# Altium schematic symbol library Sara.SchLib: 93 symbols (part 1 of 2)
Pins are listed as number, name and electrical type; pins without a type are passive.

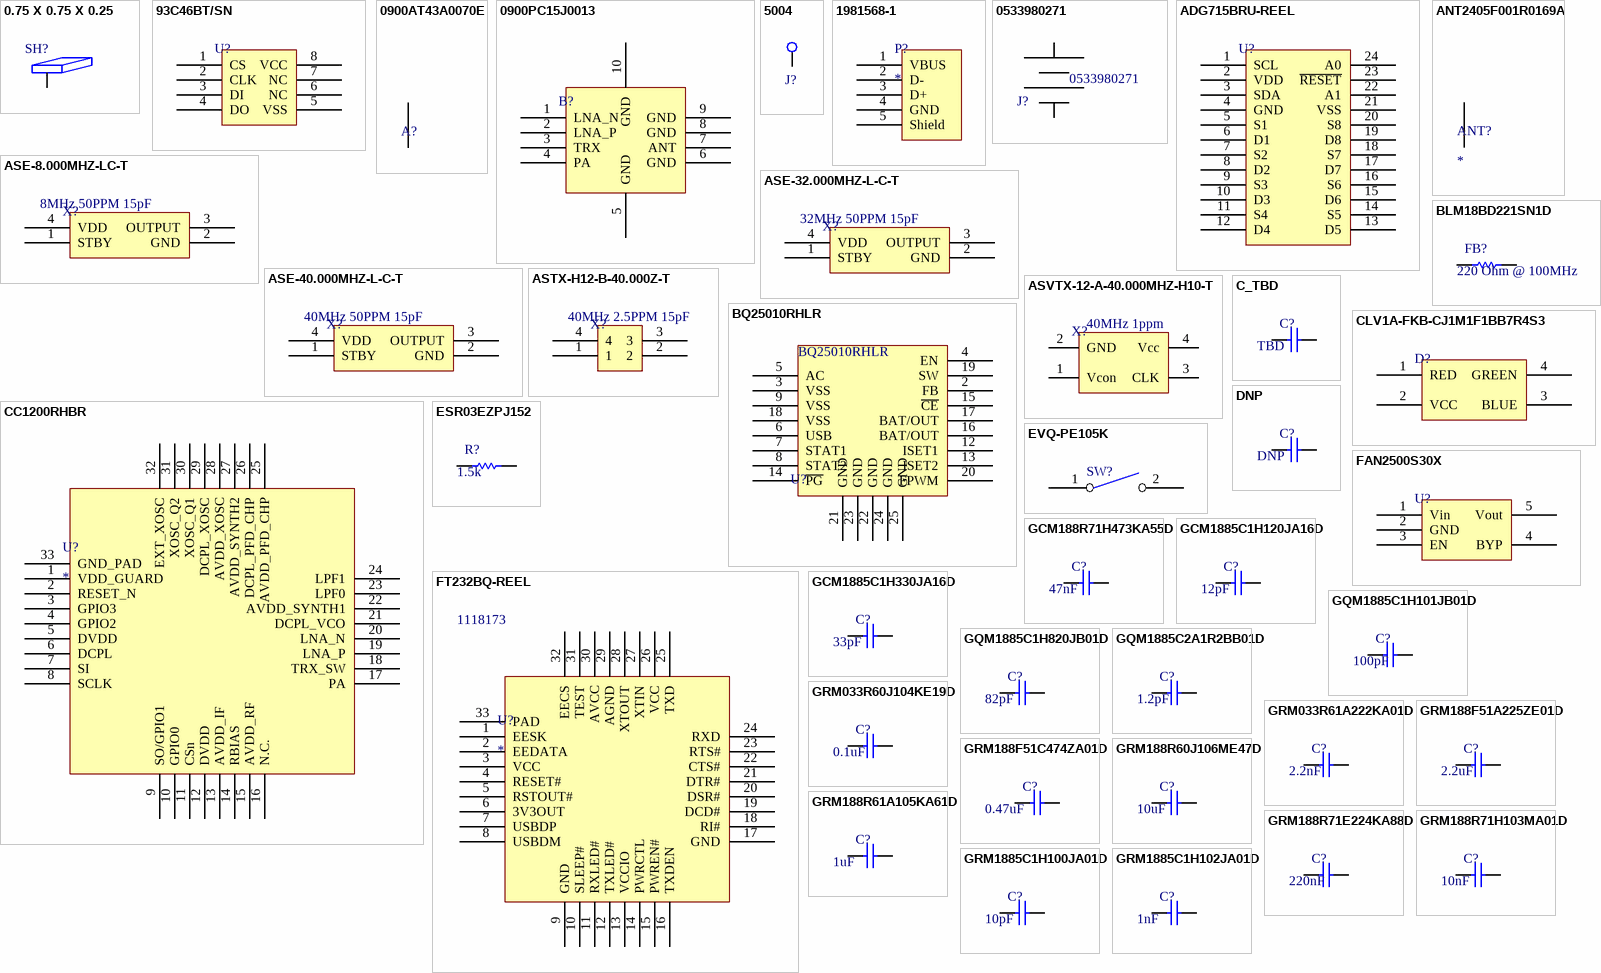
[diagram p0: symbols 0.75 X 0.75 X 0.25 to GRM1885C1H102JA01D]

## 0.75 X 0.75 X 0.25
designator SH?  (value not drawn)
SHIELD RF STD .75 X .75 X .25"; Manufacturer: Fotofab; Manufacturer Part Number: 0.75 X 0.75 X 0.25; Ventilation: Solid; Supplier 1: Digi-Key; RoHS: RoHS Compliant; Category: RF/IF and RFID; Stock 1: 2647; Pricing 1: 1=2.24, 10=2.019, 100=1.6226, 250=1.44232, 500=1.26202, 1000=1.04567, 2500=0.97355, 5000=0.9375, 10000=0.90144 (USD); Packaging: Bulk; Type: 1 Piece; Height - Overall: 0.250" (6.35mm); Length - Overall: 0.750" (19.05mm); Width - Overall: 0.750" (19.05mm); Mounting Type: Surface Mount; ComponentLink1URL: http://www.fotofab.com/pdf/Standard_RF_Shields.pdf; ComponentLink1Description: http://www.fotofab.com/pdf/Standard_RF_Shields.pdf
footprint SH-RF (SHIELD RF STD .75 X .75 X .25")
pins: 1

## 93C46BT/SN
designator U?  (value not drawn)
IC EEPROM 1KBIT 2MHZ 8SOIC; Manufacturer: Microchip Technology; Manufacturer Part Number: 93C46BT/SN; Format - Memory: EEPROMs - Serial; Memory Size: 1K (64 x 16); Interface: Microwire, 3-Wire Serial; Voltage - Supply: 4.5 V ~ 5.5 V; Supplier 1: Digi-Key; RoHS: RoHS Compliant; Category: Integrated Circuits (ICs); Stock 1: 3300; Pricing 1: 3300=0.2 (USD); Packaging: Tape & Reel (TR); Memory Type: EEPROM; Speed: 2MHz; Operating Temperature: 0°C ~ 70°C; Package / Case: 8-SOIC (0.154", 3.90mm Width); Supplier Device Package: 8-SOIC N; ComponentLink1URL: http://www.microchip.com/mymicrochip/filehandler.aspx?ddocname=en550232; ComponentLink1Description: http://www.microchip.com/mymicrochip/filehandler.aspx?ddocname=en550232
footprint SOIC127P600X175-8N (SOIC, 8-Leads, Body 4.90x3.90mm, Pitch 1.27mm, IPC Medium Density)
pins: 1 CS, 2 CLK, 3 DI, 4 DO, 5 VSS, 6 NC, 7 NC, 8 VCC

## 0900AT43A0070E
designator A?  (value not drawn)
Antennas 858-928 MHz Chip Antenna; Manufacturer: Johanson Technology; Manufacturer Part Number: 0900AT43A0070E; Frequency: 858 MHz to 928 MHz; Impedance: 50 Ohms; Power Rating: 2 W; Gain: - 2.5 dBi; Supplier 1: Mouser; RoHS: RoHS Compliant; Category: Antennas; Stock 1: 6605; Pricing 1: 1=0.780, 25=0.650, 100=0.585, 500=0.520, 1000=0.468, 2000=0.442, 5000=0.416, 10000=0.390, 25000=0.364 (USD); Bandwidth: -; Frequency Range: 858 MHz to 928 MHz; Height: 0.8 mm; Length: 7 mm; Packaging: Reel; Product: PCB Antenna; Termination Style: SMD/SMT; Width: 2 mm; Brand: Johanson Technology; Mounting Style: SMD/SMT; Standard Pack Qty: 1000; RoHS - Mouser: Y; Minimum Order Quantity: 1; Reeling: True; ComponentLink1URL: http://www.mouser.com/ds/2/611/0900AT43A0070-526531.pdf; ComponentLink1Description: http://www.mouser.com/ds/2/611/0900AT43A0070-526531.pdf; Supplier Part Number 1: 609-0900AT43A0070E
pins: 1

## 0900PC15J0013
designator B?  (value not drawn)
TI CC1120 1121 BALUN FILTER IPC; Manufacturer: Johanson Technology Inc.; Manufacturer Part Number: 0900PC15J0013; Frequency Range: 868MHz ~ 928MHz; Impedance - Unbalanced/Balanced: 50 / 50 Ohm; Phase Difference: 180° ±15; Insertion Loss (Max): 2.0dB; Return Loss (Min): 9.5dB; Supplier 1: Digi-Key; RoHS: RoHS Compliant; Category: RF/IF and RFID; Stock 1: 6483; Pricing 1: 1=1.6, 10=1.563, 25=1.0464, 50=0.9314, 100=0.8533, 250=0.7656, 500=0.74966, 1000=0.5423 (USD); Packaging: Cut Tape (CT); Part Status: Active; Package / Case: 0805 (2012 Metric), 10 PC Pad; Mounting Type: Surface Mount; ComponentLink1URL: http://www.johansontechnology.com/datasheets/highly-integrated-passive-components/0900PC15J0013.pdf; ComponentLink1Description: http://www.johansontechnology.com/datasheets/highly-integrated-passive-components/0900PC15J0013.pdf; Supplier Part Number 1: 712-1586-1-ND
footprint 0900PC15J0013
pins: 1 LNA_N, 2 LNA_P, 3 TRX, 4 PA, 5 GND, 6 GND, 7 ANT, 8 GND, 9 GND, 10 GND

## 5004
designator J?  (value not drawn)
TEST POINT PC MINI .040"D YELLOW; Manufacturer: Keystone Electronics; Manufacturer Part Number: 5004; Supplier 1: Digi-Key; RoHS: RoHS Compliant; Category: Test and Measurement; Stock 1: 45761; Pricing 1: 1=0.34, 10=0.318, 50=0.232, 100=0.2228, 250=0.20008, 500=0.191, 1000=0.15916, 2500=0.14552, 5000=0.13643 (USD); Packaging: Bulk; Type: PC Test Point, Miniature; Terminal: 0.010" x 0.020" (0.25mm x 0.51mm) Phosphor Bronze Wire, Silver Plated; Mounting Type: 0.040" (1.02mm) Hole Diameter; Material: Base, Nylon 46, UL 94V-0; Color: Yellow; ComponentLink1URL: http://www.keyelco.com/product-pdf.cfm?p=1313; ComponentLink1Description: http://www.keyelco.com/product-pdf.cfm?p=1313
footprint TP
pins: 1

## 1981568-1
designator P?
CONN RCPT MICRO USB B R/A SMD; Manufacturer: TE Connectivity; Manufacturer Part Number: 1981568-1; Connector Type: USB - micro B; Number of Contacts: 5; Gender: Receptacle; Specifications: USB 1.0; Supplier 1: Digi-Key; RoHS: RoHS Compliant; Category: Connectors, Interconnects; Stock 1: 10146; Pricing 1: 1=1.8, 10=1.636, 25=1.5364, 50=1.4694, 100=1.4026, 250=1.26904, 500=1.16886 (USD); Packaging: Cut Tape (CT); Mounting Type: Surface Mount, Right Angle, Horizontal; Features: -; Ingress Protection: -; ComponentLink1URL: http://www.te.com/commerce/DocumentDelivery/DDEController?Action=srchrtrv&DocNm=1981568&DocType=Customer+Drawing&DocLang=English; ComponentLink1Description: http://www.te.com/commerce/DocumentDelivery/DDEController?Action=srchrtrv&DocNm=1981568&DocType=Customer+Drawing&DocLang=English
footprint microUSB
pins: 1 VBUS, 2 D-, 3 D+, 4 GND, 5 Shield

## 0533980271
designator J?  Manufacturer Part Number: 0533980271  (hidden comment: *)
CONN HEADER 2POS 1.25MM VERT SMD; Manufacturer: Molex Inc; Connector Type: Header, Male Blades; Number of Positions: 2; Pitch: 0.049" (1.25mm); Supplier 1: Digi-Key; RoHS: RoHS Compliant; Category: Connectors, Interconnects; Stock 1: 14126; Pricing 1: 1=1.4, 10=1.091, 25=1.0168, 50=0.923, 100=0.8323, 250=0.7014, 500=0.66448 (USD); Connector Style: -; Mounting Type: Surface Mount; Termination: Solder; Wire Gauge: -; Features: -; Color: Natural; Packaging: Cut Tape (CT); ComponentLink1URL: http://www.molex.com/pdm_docs/sd/533980271_sd.pdf; ComponentLink1Description: http://www.molex.com/pdm_docs/sd/533980271_sd.pdf; Supplier Part Number 1: WM7606CT-ND
footprint 53398-0271 (1.25mm Pitch PicoBlade™ Header, Surface Mount, Vertical, Lead-Free, 2 Circuits)
pins: 1 Pos, 2 Neg

## ADG715BRU-REEL
designator U?  (value not drawn)
IC SWITCH OCTAL SPST 24TSSOP; Manufacturer: Analog Devices Inc; Manufacturer Part Number: ADG715BRU-REEL; Circuit: 8 x SPST - NO; On-State Resistance: 4.5 Ohm; Voltage Supply Source: Single, Dual Supply; Voltage - Supply, Single/Dual (±): 2.7 V ~ 5.5 V, ±2.5V; Current - Supply: 10µA; Supplier 1: Digi-Key; RoHS: RoHS non-compliant; Category: Integrated Circuits (ICs); Stock 1: 0; Pricing 1: 2500=2.616 (USD); Packaging: Tape & Reel (TR); Function: Switch; Operating Temperature: -40°C ~ 85°C; Mounting Type: Surface Mount; Package / Case: 24-TSSOP (0.173", 4.40mm Width); Supplier Device Package: 24-TSSOP; ComponentLink1URL: http://www.analog.com/static/imported-files/data_sheets/ADG714_715.pdf; ComponentLink1Description: http://www.analog.com/static/imported-files/data_sheets/ADG714_715.pdf
footprint TSOP65P640X120-24N (TSOP, 24-Leads, Body 7.80x4.40mm, Pitch 0.65mm, IPC Medium Density)
pins: 1 SCL, 2 VDD, 3 SDA, 4 GND, 5 S1, 6 D1, 7 S2, 8 D2, 9 S3, 10 D3, 11 S4, 12 D4, 13 D5, 14 S5, 15 D6, 16 S6, 17 D7, 18 S7, 19 D8, 20 S8, 21 VSS, 22 A1, 23 ~{RESET}, 24 A0

## ANT2405F001R0169A
designator ANT?
CHIP ANTENNA 169MHZ 24X05X1.6 MM; Manufacturer: Yageo; Manufacturer Part Number: ANT2405F001R0169A; Number of Bands: 1; Supplier 1: Digi-Key; RoHS: RoHS Compliant; Category: RF/IF and RFID; Stock 1: 0; Pricing 1: 2000=1.66383, 6000=1.60128, 10000=1.55124, 50000=1.5012 (USD); Packaging: Tape & Reel (TR); Antenna Type: Chip; Frequency: 169MHz; VSWR: -; Gain: -; Termination: Surface Mount; Mounting Type: Surface Mount; Height (Max): 0.063" (1.60mm); ComponentLink1URL: http://www.yageo.com/documents/recent/An_FR4_1690_2405_0.pdf; ComponentLink1Description: http://www.yageo.com/documents/recent/An_FR4_1690_2405_0.pdf
footprint ANT-2405-F-001-R-0169A
pins: 0 hidden, 1, 2 hidden, 3 hidden

## ASE-8.000MHZ-LC-T
designator X?  (value not drawn)
OSC XO 8.000MHZ CMOS SMD; Manufacturer: Abracon LLC; Manufacturer Part Number: ASE-8.000MHZ-LC-T; Frequency: 8MHz; Function: Enable/Disable; Voltage - Supply: 3.3V; Frequency Stability: ±50ppm; Current - Supply (Max): 7mA; Current - Supply (Disable) (Max): 10µA; Supplier 1: Digi-Key; RoHS: RoHS Compliant; Category: Crystals, Oscillators, Resonators; Stock 1: 1499; Pricing 1: 1=1.49, 10=1.419, 50=1.386, 100=1.188, 500=1.155 (USD); Packaging: Cut Tape (CT); Part Status: Active; Type: XO (Standard); Output: CMOS; Operating Temperature: -40°C ~ 85°C; Ratings: -; Mounting Type: Surface Mount; Package / Case: 4-SMD, No Lead (DFN, LCC); Size / Dimension: 0.126" L x 0.098" W (3.20mm x 2.50mm); Height - Seated (Max): 0.047" (1.20mm); ComponentLink1URL: http://www.abracon.com/Oscillators/ASEseries.pdf; ComponentLink1Description: http://www.abracon.com/Oscillators/ASEseries.pdf; Supplier Part Number 1: 535-9558-1-ND
footprint 3.2x2.5x1.2mmXTAL
pins: 1 STBY, 2 GND, 3 OUTPUT, 4 VDD
text: 8MHz 50PPM 15pF

## ASE-32.000MHZ-L-C-T
designator X?  (value not drawn)
Standard Clock Oscillators 32.000M 3.3V 50ppm; Manufacturer: ABRACON; Manufacturer Part Number: ASE-32.000MHZ-L-C-T; Frequency: 32 MHz; Load Capacitance: 15 pF; Output Format: CMOS; Supplier 1: Mouser; RoHS: RoHS Compliant; Category: Standard Clock Oscillators; Stock 1: 0; Pricing 1: 1000=0.959, 2000=0.910, 5000=0.878, 10000=0.845 (USD); Frequency Stability: 50 PPM; Height: 1 mm; Length: 3.2 mm; Package / Case: 3.2 mm x 2.5 mm; Packaging: Reel; Product: Standard Clock Oscillators; Series: ASE; Termination Style: SMD/SMT; Type: XO - Crystal Clock Oscillators; Width: 2.5 mm; Brand: ABRACON; Mounting Style: SMD/SMT; Maximum Operating Temperature: + 85 C; Minimum Operating Temperature: - 40 C; Operating Supply Voltage: 3.3 V; Standard Pack Qty: 1000; RoHS - Mouser: Y; Minimum Order Quantity: 1000; Reeling: True; ComponentLink1URL: http://www.mouser.com/ds/2/3/ASEseries-38758.pdf; ComponentLink1Description: http://www.mouser.com/ds/2/3/ASEseries-38758.pdf; Supplier Part Number 1: 815-ASE-32.000MLCT
footprint 3.2x2.5x1.2mmXTAL
pins: 1 STBY, 2 GND, 3 OUTPUT, 4 VDD
text: 32MHz 50PPM 15pF

## ASE-40.000MHZ-L-C-T
designator X?  (value not drawn)
OSC XO 40.0000MHZ LVCMOS SMD; Manufacturer: Abracon LLC; Manufacturer Part Number: ASE-40.000MHZ-L-C-T; Frequency: 40MHz; Function: Enable/Disable; Output: CMOS; Voltage - Supply: 3.3V; Frequency Stability: ±50ppm; Current - Supply (Max): 13mA; Current - Supply (Disable) (Max): 10µA; Supplier 1: Digi-Key; RoHS: RoHS Compliant; Category: Crystals, Oscillators, Resonators; Stock 1: 2000; Pricing 1: 1=1.26, 10=1.209, 50=1.1804, 100=1.0118, 500=0.98368 (USD); Packaging: Cut Tape (CT); Part Status: Active; Type: XO (Standard); Operating Temperature: -40°C ~ 85°C; Ratings: -; Mounting Type: Surface Mount; Package / Case: 4-SMD, No Lead (DFN, LCC); Size / Dimension: 0.126" L x 0.098" W (3.20mm x 2.50mm); Height - Seated (Max): 0.047" (1.20mm); ComponentLink1URL: http://www.abracon.com/Oscillators/ASEseries.pdf; ComponentLink1Description: http://www.abracon.com/Oscillators/ASEseries.pdf; Supplier Part Number 1: 535-13489-1-ND
footprint 3.2x2.5x1.2mmXTAL
pins: 1 STBY, 2 GND, 3 OUTPUT, 4 VDD
text: 40MHz 50PPM 15pF

## ASTX-H12-B-40.000Z-T
designator X?  (value not drawn)
TCXO Oscillators 40MHz 2.5PPM 2.5Volt -30C +75C; Manufacturer: ABRACON; Manufacturer Part Number: ASTX-H12-B-40.000Z-T; Load Capacitance: 15 pF; Supply Voltage: 2.5 V; Output Format: HCMOS; Product Status: New Product; Supplier 1: Mouser; RoHS: RoHS Compliant; Category: TCXO Oscillators; Stock 1: 0; Pricing 1: 560=4.25, 1000=3.31, 2000=3.25, 5000=3.19 (AUD); Dimensions: 2 mm W x 2.5 mm L x 0.9 mm H; Frequency: 40 MHz; Frequency Stability: 2.5 PPM; Package / Case: 2.5 mm x 2 mm x 0.9 mm; Packaging: Reel; Product: TCXO; Series: ASTX-12; Termination Style: SMD/SMT; Maximum Operating Temperature: + 75 C; Minimum Operating Temperature: - 30 C; RoHS - Mouser: Y; Minimum Order Quantity: 560; Reeling: True; ComponentLink1URL: http://www.abracon.com/Oscillators/ASTX-H12.pdf; ComponentLink1Description: http://www.abracon.com/Oscillators/ASTX-H12.pdf
footprint 2.5x2.0x0.9mmXTAL
pins: 1, 2, 3, 4
text: 40MHz 2.5PPM 15pF

## ASVTX-12-A-40.000MHZ-H10-T
designator X?  (value not drawn)
OSC VCTCXO 40.000MHZ SNWV SMD; Manufacturer: Abracon Corporation; Manufacturer Part Number: ASVTX-12-A-40.000MHZ-H10-T; Frequency: 40MHz; Output: Clipped Sine Wave; Voltage - Supply: 3V; Frequency Stability: ±1ppm; Current - Supply (Max): 2.5mA; Supplier 1: Digi-Key; RoHS: RoHS Compliant; Category: Crystals and Oscillators; Stock 1: 0; Pricing 1: 1000=2.17, 3000=2.015, 5000=1.9375 (USD); Packaging: Tape & Reel (TR); Type: VCTCXO; Function: -; Operating Temperature: -30°C ~ 85°C; Ratings: -; Mounting Type: Surface Mount; Size / Dimension: 0.098" L x 0.079" W (2.50mm x 2.00mm); Height: 0.035" (0.90mm); Package / Case: 4-SMD, No Lead (DFN, LCC); Current - Supply (Disable) (Max): -; ComponentLink1URL: http://www.abracon.com/Oscillators/ASTX12_ASVTX12.pdf; ComponentLink1Description: http://www.abracon.com/Oscillators/ASTX12_ASVTX12.pdf
footprint 2.5x2.0x0.9mmXTAL
pins: 1 Vcon, 2 GND, 3 CLK, 4 Vcc
text: 40MHz 1ppm

## BLM18BD221SN1D
designator FB?  (value not drawn)
FERRITE CHIP 220 OHM 200MA 0603; Manufacturer: Murata Electronics North America; Manufacturer Part Number: BLM18BD221SN1D; Impedance @ Frequency: 220 Ohm @ 100MHz; DC Resistance (DCR): 450 mOhm Max; Filter Type: Differential Mode - Single; Supplier 1: Digi-Key; RoHS: RoHS Compliant; Category: Filters; Stock 1: 35645; Pricing 1: 1=0.1, 10=0.087, 50=0.0712, 100=0.0523, 250=0.038, 500=0.03484, 1000=0.0301 (USD); Packaging: Cut Tape (CT); Current Rating: 200mA; Package / Case: 0603 (1608 Metric); Mounting Type: Surface Mount; Height (Max): 0.037" (0.95mm); Size / Dimension: 0.063" L x 0.031" W (1.60mm x 0.80mm); ComponentLink1URL: http://search.murata.co.jp/Ceramy/image/img/PDF/ENG/L0110S0100BLM18B.pdf; ComponentLink1Description: http://search.murata.co.jp/Ceramy/image/img/PDF/ENG/L0110S0100BLM18B.pdf
footprint RESC1608X06N (0603) (Chip Resistor, 2-Leads, Body 1.60x0.80mm, IPC Medium Density)
pins: 1, 2

## BQ25010RHLR
designator U?  Manufacturer Part Number: BQ25010RHLR  (hidden comment: *)
IC DC/DC CONV/CHRGR ADJ 20-QFN; Manufacturer: Texas Instruments; Function: Charge Management; Battery Chemistry: Lithium-Ion (Li-Ion), Lithium-Polymer (Li-Pol); Voltage - Supply: 4.35 V ~ 6.5 V; Supplier 1: Digi-Key; RoHS: RoHS Compliant; Category: Integrated Circuits (ICs); Stock 1: 0; Pricing 1: 3000=1.995, 6000=1.92, 15000=1.86, 30000=1.8 (USD); Operating Temperature: -40°C ~ 125°C; Mounting Type: Surface Mount; Package / Case: 20-VFQFN Exposed Pad; Supplier Device Package: 20-QFN-EP (4.50x3.50); Packaging: Tape & Reel (TR); ComponentLink1URL: http://www.ti.com/lit/ds/symlink/bq25010.pdf; ComponentLink1Description: http://www.ti.com/lit/ds/symlink/bq25010.pdf; Supplier Part Number 1: 296-17639-2-ND
footprint S-PVQFN-N20 (QFN127P600-8N)
pins: 1 NC hidden, 2 FB, 3 VSS, 4 EN, 5 AC, 6 USB, 7 STAT1, 8 STAT2, 9 VSS, 10 NC hidden, 11 NC hidden, 12 ISET1, 13 ISET2, 14 ~{PG}, 15 ~{CE}, 16 BAT/OUT, 17 BAT/OUT, 18 VSS, 19 SW, 20 FPWM, 21 GND, 22 GND, 23 GND, 24 GND, 25 GND

## C_TBD
designator C?  (value not drawn)
C_TBD; Value: DNP; Mounting Type: Surface Mount, MLCC; Applications: General Purpose; Package / Case: 0603 (1608 Metric)
footprint CAPC1608X08N (0603) (Chip Capacitor, 2-Leads, Body 1.60x0.80mm, IPC Medium Density)
pins: 1, 2
text: TBD

## CC1200RHBR
designator U?
IC RF TXRX SNGL-CHIP LP 32-QFN; Manufacturer: Texas Instruments; Manufacturer Part Number: CC1200RHBR; Frequency: 164MHz ~ 190MHz, 410MHz ~ 475MHz, 820MHz ~ 950MHz; Data Rate (Max): 1.25Mbps; Modulation or Protocol: FSK, GFSK, MSK, OOK; Power - Output: 16dBm; Sensitivity: -125dBm; Voltage - Supply: 2 V ~ 3.6 V; Current - Receiving: 19mA; Current - Transmitting: 54mA; Data Interface: PCB, Surface Mount; Supplier 1: Digi-Key; RoHS: RoHS Compliant; Category: RF/IF and RFID; Stock 1: 0; Pricing 1: 3000=2.926 (USD); Packaging: Tape & Reel (TR); Applications: General Purpose; Memory Size: -; Antenna Connector: PCB, Surface Mount; Operating Temperature: -40°C ~ 85°C; Package / Case: 32-VFQFN Exposed Pad; ComponentLink1URL: http://www.ti.com/lit/ds/symlink/cc1200.pdf; ComponentLink1Description: http://www.ti.com/lit/ds/symlink/cc1200.pdf
footprint S-PVQFN-N32 (QFN, 32-Leads, Body 5.00x5.00mm, Pitch 0.50mm, Thermal Pad 3.45x3.40mm, IPC Medium Density)
pins: 1 VDD_GUARD, 2 RESET_N, 3 GPIO3, 4 GPIO2, 5 DVDD, 6 DCPL, 7 SI, 8 SCLK, 9 SO/GPIO1, 10 GPIO0, 11 CSn, 12 DVDD, 13 AVDD_IF, 14 RBIAS, 15 AVDD_RF, 16 N.C., 17 PA, 18 TRX_SW, 19 LNA_P, 20 LNA_N, 21 DCPL_VCO, 22 AVDD_SYNTH1, 23 LPF0, 24 LPF1, 25 AVDD_PFD_CHP, 26 DCPL_PFD_CHP, 27 AVDD_SYNTH2, 28 AVDD_XOSC, 29 DCPL_XOSC, 30 XOSC_Q1, 31 XOSC_Q2, 32 EXT_XOSC, 33 GND_PAD

## CLV1A-FKB-CJ1M1F1BB7R4S3
designator D?  (value not drawn)
LED RED/GREEN/BLUE PLCC4 SMD; Manufacturer: Cree Inc; Manufacturer Part Number: CLV1A-FKB-CJ1M1F1BB7R4S3; Color: Red, Green, Blue (RGB); Wavelength - Dominant: 621.5nm, 530nm, 472.5nm; Wavelength - Peak: 630nm, 527nm, 470nm; Millicandela Rating: 675mcd Red, 1055mcd Green, 337mcd Blue; Voltage - Forward (Vf) (Typ): 2V Red, 3.2V Green, 3.2V Blue; Current - Test: 20mA; Viewing Angle: 120°; Lens Type: Diffused, White; Lens Style/Size: Round with Flat Top, 2.2mm; Supplier 1: Digi-Key; RoHS: RoHS Compliant; Category: Optoelectronics; Stock 1: 254000; Pricing 1: 2000=0.354, 50000=0.329, 100000=0.307 (USD); Packaging: Tape & Reel (TR); Package / Case: 4-PLCC; Size / Dimension: 3.20mm L x 2.80mm W; Height: 2.10mm; Mounting Type: Surface Mount; Luminous Flux @ Current - Test: -; ComponentLink1URL: http://www.cree.com/~/media/Files/Cree/LED%20Components%20and%20Modules/HB/Data%20Sheets/CLV1AFKB(874).pdf; ComponentLink1Description: http://www.cree.com/~/media/Files/Cree/LED%20Components%20and%20Modules/HB/Data%20Sheets/CLV1AFKB(874).pdf
footprint CREE LV1
pins: 1 RED, 2 VCC, 3 BLUE, 4 GREEN

## DNP
designator C?  (value not drawn)
DNP; Mounting Type: Surface Mount, MLCC; Applications: General Purpose; Package / Case: 0603 (1608 Metric); Value: DNP
footprint CAPC1608X08N (0603) (Chip Capacitor, 2-Leads, Body 1.60x0.80mm, IPC Medium Density)
pins: 1, 2

## ESR03EZPJ152
designator R?  (value not drawn)
RES 1.5K OHM 1/4W 5% 0603 SMD; Manufacturer: Rohm Semiconductor; Manufacturer Part Number: ESR03EZPJ152; Power (Watts): 0.25W, 1/4W; Temperature Coefficient: ±200ppm/°C; Supplier 1: Digi-Key; RoHS: RoHS Compliant; Category: Resistors; Stock 1: 15000; Pricing 1: 5000=0.00935, 10000=0.00839, 25000=0.0077, 50000=0.00723, 125000=0.00707 (USD); Packaging: Tape & Reel (TR); Resistance (Ohms): 1.5k; Tolerance: ±5%; Composition: Thick Film; Features: Pulse Withstanding; Package / Case: 0603 (1608 Metric); Supplier Device Package: 0603 (1608 Metric); Size / Dimension: 0.063" L x 0.031" W (1.60mm x 0.80mm); Height: 0.022" (0.55mm); Number of Terminations: 2; ComponentLink1URL: http://rohmfs.rohm.com/en/products/databook/datasheet/passive/resistor/chip_resistor/esr.pdf; ComponentLink1Description: http://rohmfs.rohm.com/en/products/databook/datasheet/passive/resistor/chip_resistor/esr.pdf
footprint RESC1608X06N (0603) (Chip Resistor, 2-Leads, Body 1.60x0.80mm, IPC Medium Density)
pins: 1, 2

## EVQ-PE105K
designator SW?  (value not drawn)
SWITCH TACTILE SPST-NO 0.05A 12V; Manufacturer: Panasonic Electronic Components; Manufacturer Part Number: EVQ-PE105K; Switch Function: Off-Mom; Contact Rating @ Voltage: 0.05A @ 12VDC; Actuator Type: Standard; Actuator Height off PCB, from Pins: 5.00mm; Actuator Orientation: Top Actuated; Outline: 6.00mm x 3.50mm; Illumination: Non-Illuminated; Operating Force: 100gf; Switch Travel: 0.25mm; Mechanical Life: 50,000 Cycles; Supplier 1: Digi-Key; RoHS: RoHS Compliant; Category: Switches; Stock 1: 18000; Pricing 1: 2000=0.32832, 4000=0.3078, 6000=0.29754, 10000=0.27702, 14000=0.27292, 50000=0.26676 (USD); Packaging: Tape & Reel (TR); Circuit: SPST-NO; Mounting Type: Surface Mount; Termination Style: Gull Wing; Illumination Voltage (Nominal): -; Illumination Type, Color: -; Ingress Protection: -; Features: -; Actuator Material: -; Operating Temperature: -30°C ~ 85°C; ComponentLink1URL: http://www.panasonic.com/industrial/components/pdf/ATK0000CE7.pdf; ComponentLink1Description: http://www.panasonic.com/industrial/components/pdf/ATK0000CE7.pdf
footprint EVQ-PE105K
pins: 1, 2

## FAN2500S30X
designator U?  (value not drawn)
IC REG LDO 3V 0.1A SOT23-5; Manufacturer: Fairchild Semiconductor; Manufacturer Part Number: FAN2500S30X; Regulator Topology: Positive Fixed; Current - Output: 100mA; Voltage - Dropout (Typical): 0.1V @ 100mA; Number of Regulators: 1; Voltage - Input: Up to 6.5V; Supplier 1: Digi-Key; RoHS: RoHS Compliant; Category: Integrated Circuits (ICs); Stock 1: 6000; Pricing 1: 3000=0.25462, 6000=0.23706, 15000=0.22828, 30000=0.2195, 75000=0.21599, 150000=0.21072 (USD); Packaging: Tape & Reel (TR); Voltage - Output: 3V; Current - Limit (Min): -; Operating Temperature: -40°C ~ 125°C; Mounting Type: Surface Mount; Package / Case: SC-74A, SOT-753; Supplier Device Package: SOT-23-5; ComponentLink1URL: http://www.fairchildsemi.com/ds/FA/FAN2500.pdf; ComponentLink1Description: http://www.fairchildsemi.com/ds/FA/FAN2500.pdf
footprint SOT95P280X145-5N (SOT23, 5-Leads, Body 2.90x2.80mm, Pitch 0.95mm, IPC Medium Density)
pins: 1 Vin, 2 GND, 3 EN, 4 BYP, 5 Vout

## FT232BQ-REEL
designator U?  Supplier Part Number 2: 1118173
IC NEW DESIGNS REFER TO FT232RQ; Manufacturer: FTDI, Future Technology Devices International Ltd; Manufacturer Part Number: FT232BQ-REEL; Protocol: USB; Function: Bridge, USB to UART; Interface: UART; Standards: USB 2.0; Voltage - Supply: 4.35 V ~ 5.25 V; Current - Supply: 25mA; Supplier 1: Digi-Key; RoHS: RoHS Compliant; Category: Integrated Circuits (ICs); Stock 1: 3269; Pricing 1: 1=5.75, 10=4.95, 50=4.6, 100=4.25, 250=3.95, 500=3.7, 1000=3.30001 (USD); Packaging: Cut Tape (CT); Operating Temperature: 0°C ~ 70°C; Package / Case: 32-WFQFN Exposed Pad; Supplier Device Package: 32-QFN (5x5); ComponentLink1URL: http://www.ftdichip.com/Support/Documents/DataSheets/ICs/DS_FT232BL_BQ.pdf; ComponentLink1Description: http://www.ftdichip.com/Support/Documents/DataSheets/ICs/DS_FT232BL_BQ.pdf; Supplier 2: Farnell
footprint QFN50P500X500X75_HS-33N (QFN, 32-Leads, Body 5.00x5.00mm, Pitch 0.50mm, Thermal Pad 2.70x2.70mm, IPC Medium Density)
pins: 1 EESK, 2 EEDATA, 3 VCC, 4 RESET#, 5 RSTOUT#, 6 3V3OUT, 7 USBDP, 8 USBDM, 9 GND, 10 SLEEP#, 11 RXLED#, 12 TXLED#, 13 VCCIO, 14 PWRCTL, 15 PWREN#, 16 TXDEN, 17 GND, 18 RI#, 19 DCD#, 20 DSR#, 21 DTR#, 22 CTS#, 23 RTS#, 24 RXD, 25 TXD, 26 VCC, 27 XTIN, 28 XTOUT, 29 AGND, 30 AVCC, 31 TEST, 32 EECS, 33 PAD

## GCM188R71H473KA55D
designator C?  (value not drawn)
CAP CER 0.047UF 50V 10% X7R 0603; Manufacturer: Murata Electronics North America; Manufacturer Part Number: GCM188R71H473KA55D; Capacitance: 0.047µF; Supplier 1: Digi-Key; RoHS: RoHS Compliant; Category: Capacitors; Stock 1: 2444374; Pricing 1: 1=0.13, 10=0.09, 50=0.0518, 100=0.0428, 250=0.036, 500=0.03016, 1000=0.02475 (USD); Packaging: Cut Tape (CT); Voltage - Rated: 50V; Tolerance: ±10%; Temperature Coefficient: X7R; Mounting Type: Surface Mount, MLCC; Operating Temperature: -55°C ~ 125°C; Applications: Automotive; Ratings: AEC-Q200; Package / Case: 0603 (1608 Metric); Size / Dimension: 0.063" L x 0.031" W (1.60mm x 0.80mm); Height - Seated (Max): -; Thickness (Max): 0.035" (0.90mm); Lead Spacing: -; Features: -; Lead Style: -; ComponentLink1URL: http://www.murata.com/products/catalog/pdf/c03e.pdf; ComponentLink1Description: http://www.murata.com/products/catalog/pdf/c03e.pdf
footprint CAPC1608X08N (0603) (Chip Capacitor, 2-Leads, Body 1.60x0.80mm, IPC Medium Density)
pins: 1, 2
text: 47nF

## GCM1885C1H120JA16D
designator C?  (value not drawn)
CAP CER 12PF 50V 5% NP0 0603; Manufacturer: Murata Electronics North America; Manufacturer Part Number: GCM1885C1H120JA16D; Temperature Coefficient: C0G, NP0; Supplier 1: Digi-Key; RoHS: RoHS Compliant; Category: Capacitors; Stock 1: 12000; Pricing 1: 4000=0.01311, 8000=0.01197, 12000=0.0114, 28000=0.01083, 100000=0.00784 (USD); Packaging: Tape & Reel (TR); Capacitance: 12pF; Voltage - Rated: 50V; Tolerance: ±5%; Mounting Type: Surface Mount, MLCC; Operating Temperature: -55°C ~ 125°C; Applications: Automotive; Ratings: AEC-Q200; Package / Case: 0603 (1608 Metric); Size / Dimension: 0.063" L x 0.031" W (1.60mm x 0.80mm); Height - Seated (Max): -; Thickness (Max): 0.035" (0.90mm); Lead Spacing: -; Features: -; Lead Style: -; ComponentLink1URL: http://www.murata.com/products/catalog/pdf/c03e.pdf; ComponentLink1Description: http://www.murata.com/products/catalog/pdf/c03e.pdf
footprint CAPC1608X08N (0603) (Chip Capacitor, 2-Leads, Body 1.60x0.80mm, IPC Medium Density)
pins: 1, 2

## GCM1885C1H330JA16D
designator C?  (value not drawn)
CAP CER 33PF 50V 5% NP0 0603; Manufacturer: Murata Electronics North America; Manufacturer Part Number: GCM1885C1H330JA16D; Temperature Coefficient: C0G, NP0; Supplier 1: Digi-Key; RoHS: RoHS Compliant; Category: Capacitors; Stock 1: 47538; Pricing 1: 1=0.1, 10=0.073, 50=0.0396, 100=0.0336, 250=0.02744, 500=0.02348, 1000=0.0183 (USD); Packaging: Cut Tape (CT); Capacitance: 33pF; Voltage - Rated: 50V; Tolerance: ±5%; Mounting Type: Surface Mount, MLCC; Operating Temperature: -55°C ~ 125°C; Applications: Automotive; Ratings: AEC-Q200; Package / Case: 0603 (1608 Metric); Size / Dimension: 0.063" L x 0.031" W (1.60mm x 0.80mm); Height - Seated (Max): -; Thickness (Max): 0.035" (0.90mm); Lead Spacing: -; Features: -; Lead Style: -; ComponentLink1URL: http://www.murata.com/products/catalog/pdf/c03e.pdf; ComponentLink1Description: http://www.murata.com/products/catalog/pdf/c03e.pdf
footprint CAPC1608X08N (0603) (Chip Capacitor, 2-Leads, Body 1.60x0.80mm, IPC Medium Density)
pins: 1, 2

## GQM1885C1H101JB01D
designator C?  (value not drawn)
CAP CER 100PF 50V 5% NP0 0603; Manufacturer: Murata Electronics North America; Manufacturer Part Number: GQM1885C1H101JB01D; Temperature Coefficient: C0G, NP0; Supplier 1: Digi-Key; RoHS: RoHS Compliant; Category: Capacitors; Stock 1: 5529; Pricing 1: 1=0.78, 10=0.75, 50=0.448, 100=0.364, 250=0.3024, 500=0.2744, 1000=0.252 (USD); Packaging: Cut Tape (CT); Capacitance: 100pF; Voltage - Rated: 50V; Tolerance: ±5%; Mounting Type: Surface Mount, MLCC; Operating Temperature: -55°C ~ 125°C; Applications: RF, Microwave, High Frequency; Ratings: -; Package / Case: 0603 (1608 Metric); Size / Dimension: 0.063" L x 0.031" W (1.60mm x 0.80mm); Height - Seated (Max): -; Thickness (Max): 0.035" (0.90mm); Lead Spacing: -; Features: High Q, Low Loss; Lead Style: -; ComponentLink1URL: http://www.murata.com/products/catalog/pdf/c02e.pdf; ComponentLink1Description: http://www.murata.com/products/catalog/pdf/c02e.pdf
footprint CAPC1608X08N (0603) (Chip Capacitor, 2-Leads, Body 1.60x0.80mm, IPC Medium Density)
pins: 1, 2

## GQM1885C1H820JB01D
designator C?  (value not drawn)
CAP CER 82PF 50V 5% NP0 0603; Manufacturer: Murata Electronics North America; Manufacturer Part Number: GQM1885C1H820JB01D; Temperature Coefficient: C0G, NP0; Supplier 1: Digi-Key; RoHS: RoHS Compliant; Category: Capacitors; Stock 1: 7568; Pricing 1: 1=0.78, 10=0.75, 50=0.448, 100=0.364, 250=0.3024, 500=0.2744, 1000=0.252 (USD); Packaging: Cut Tape (CT); Capacitance: 82pF; Voltage - Rated: 50V; Tolerance: ±5%; Mounting Type: Surface Mount, MLCC; Operating Temperature: -55°C ~ 125°C; Applications: RF, Microwave, High Frequency; Ratings: -; Package / Case: 0603 (1608 Metric); Size / Dimension: 0.063" L x 0.031" W (1.60mm x 0.80mm); Height - Seated (Max): -; Thickness (Max): 0.035" (0.90mm); Lead Spacing: -; Features: High Q, Low Loss; Lead Style: -; ComponentLink1URL: http://www.murata.com/products/catalog/pdf/c02e.pdf; ComponentLink1Description: http://www.murata.com/products/catalog/pdf/c02e.pdf
footprint CAPC1608X08N (0603) (Chip Capacitor, 2-Leads, Body 1.60x0.80mm, IPC Medium Density)
pins: 1, 2

## GQM1885C2A1R2BB01D
designator C?  (value not drawn)
CAP CER 1.2PF 100V NP0 0603; Manufacturer: Murata Electronics North America; Manufacturer Part Number: GQM1885C2A1R2BB01D; Tolerance: ±0.1pF; Temperature Coefficient: C0G, NP0; Supplier 1: Digi-Key; RoHS: RoHS Compliant; Category: Capacitors; Stock 1: 12494; Pricing 1: 1=0.71, 10=0.679, 50=0.4052, 100=0.3292, 250=0.27352, 500=0.24818, 1000=0.22793 (USD); Packaging: Cut Tape (CT); Capacitance: 1.2pF; Voltage - Rated: 100V; Mounting Type: Surface Mount, MLCC; Operating Temperature: -55°C ~ 125°C; Applications: RF, Microwave, High Frequency; Ratings: -; Package / Case: 0603 (1608 Metric); Size / Dimension: 0.063" L x 0.031" W (1.60mm x 0.80mm); Height - Seated (Max): -; Thickness (Max): 0.035" (0.90mm); Lead Spacing: -; Features: High Q, Low Loss; Lead Style: -; ComponentLink1URL: http://www.murata.com/products/catalog/pdf/c02e.pdf; ComponentLink1Description: http://www.murata.com/products/catalog/pdf/c02e.pdf
footprint CAPC1608X08N (0603) (Chip Capacitor, 2-Leads, Body 1.60x0.80mm, IPC Medium Density)
pins: 1, 2

## GRM033R60J104KE19D
designator C?  (value not drawn)
CAP CER 0.1UF 6.3V 10% X5R 0201; Manufacturer: Murata Electronics North America; Manufacturer Part Number: GRM033R60J104KE19D; Capacitance: 0.1µF; Supplier 1: Digi-Key; RoHS: RoHS Compliant; Category: Capacitors; Stock 1: 2387364; Pricing 1: 1=0.1, 10=0.035, 50=0.0188, 100=0.016, 250=0.01304, 500=0.01116, 1000=0.0087, 5000=0.00725 (USD); Packaging: Cut Tape (CT); Voltage - Rated: 6.3V; Tolerance: ±10%; Temperature Coefficient: X5R; Mounting Type: Surface Mount, MLCC; Operating Temperature: -55°C ~ 85°C; Applications: General Purpose; Ratings: -; Package / Case: 0201 (0603 Metric); Size / Dimension: 0.024" L x 0.012" W (0.60mm x 0.30mm); Height - Seated (Max): -; Thickness (Max): 0.013" (0.33mm); Lead Spacing: -; Features: -; Lead Style: -; ComponentLink1URL: http://search.murata.co.jp/Ceramy/image/img/A01X/G101/ENG/GRM033R60J104KE19-01.pdf; ComponentLink1Description: http://search.murata.co.jp/Ceramy/image/img/A01X/G101/ENG/GRM033R60J104KE19-01.pdf
footprint CAPC1608X08N (0603) (Chip Capacitor, 2-Leads, Body 1.60x0.80mm, IPC Medium Density)
pins: 1, 2
text: 0.1uF

## GRM033R61A222KA01D
designator C?  (value not drawn)
CAP CER 2200PF 10V 10% X5R 0201; Manufacturer: Murata Electronics North America; Manufacturer Part Number: GRM033R61A222KA01D; Supplier 1: Digi-Key; Category: Capacitors; Stock 1: 95750
footprint CAPC1608X08N (0603) (Chip Capacitor, 2-Leads, Body 1.60x0.80mm, IPC Medium Density)
pins: 1, 2
text: 2.2nF

## GRM188F51A225ZE01D
designator C?  (value not drawn)
CAP CER 2.2UF 10V Y5V 0603; Manufacturer: Murata Electronics North America; Manufacturer Part Number: GRM188F51A225ZE01D; Capacitance: 2.2µF; Tolerance: -20%, +80%; Temperature Coefficient: Y5V (F); Supplier 1: Digi-Key; RoHS: RoHS Compliant; Category: Capacitors; Stock 1: 8000; Pricing 1: 4000=0.02043, 8000=0.019, 12000=0.01805, 28000=0.0171 (USD); Packaging: Tape & Reel (TR); Voltage - Rated: 10V; Mounting Type: Surface Mount, MLCC; Operating Temperature: -30°C ~ 85°C; Applications: General Purpose; Ratings: -; Package / Case: 0603 (1608 Metric); Size / Dimension: 0.063" L x 0.031" W (1.60mm x 0.80mm); Height - Seated (Max): -; Thickness (Max): 0.035" (0.90mm); Lead Spacing: -; Features: -; Lead Style: -; ComponentLink1URL: http://search.murata.co.jp/Ceramy/image/img/A01X/G101/ENG/GRM188F51A225ZE01-01.pdf; ComponentLink1Description: http://search.murata.co.jp/Ceramy/image/img/A01X/G101/ENG/GRM188F51A225ZE01-01.pdf
footprint CAPC1608X08N (0603) (Chip Capacitor, 2-Leads, Body 1.60x0.80mm, IPC Medium Density)
pins: 1, 2
text: 2.2uF

## GRM188F51C474ZA01D
designator C?  (value not drawn)
CAP CER 0.47UF 16V Y5V 0603; Manufacturer: Murata Electronics North America; Manufacturer Part Number: GRM188F51C474ZA01D; Capacitance: 0.47µF; Tolerance: -20%, +80%; Temperature Coefficient: Y5V (F); Supplier 1: Digi-Key; RoHS: RoHS Compliant; Category: Capacitors; Stock 1: 30301; Pricing 1: 1=0.1, 10=0.068, 50=0.037, 100=0.0314, 250=0.02564, 500=0.02194, 1000=0.0171 (USD); Packaging: Cut Tape (CT); Voltage - Rated: 16V; Mounting Type: Surface Mount, MLCC; Operating Temperature: -30°C ~ 85°C; Applications: General Purpose; Ratings: -; Package / Case: 0603 (1608 Metric); Size / Dimension: 0.063" L x 0.031" W (1.60mm x 0.80mm); Height - Seated (Max): -; Thickness (Max): 0.035" (0.90mm); Lead Spacing: -; Features: -; Lead Style: -; ComponentLink1URL: http://search.murata.co.jp/Ceramy/image/img/A01X/G101/ENG/GRM188F51C474ZA01-01.pdf; ComponentLink1Description: http://search.murata.co.jp/Ceramy/image/img/A01X/G101/ENG/GRM188F51C474ZA01-01.pdf; Supplier 2: Farnell
footprint CAPC1608X08N (0603) (Chip Capacitor, 2-Leads, Body 1.60x0.80mm, IPC Medium Density)
pins: 1, 2
text: 0.47uF

## GRM188R60J106ME47D
designator C?  (value not drawn)
CAP CER 10UF 6.3V 20% X5R 0603; Manufacturer: Murata Electronics North America; Manufacturer Part Number: GRM188R60J106ME47D; Capacitance: 10µF; Supplier 1: Digi-Key; RoHS: RoHS Compliant; Category: Capacitors; Stock 1: 2128324; Pricing 1: 1=0.24, 10=0.2, 50=0.1126, 100=0.1, 250=0.075, 500=0.06626, 1000=0.05875 (USD); Packaging: Digi-Reel®; Voltage - Rated: 6.3V; Tolerance: ±20%; Temperature Coefficient: X5R; Mounting Type: Surface Mount, MLCC; Operating Temperature: -55°C ~ 85°C; Applications: General Purpose; Ratings: -; Package / Case: 0603 (1608 Metric); Size / Dimension: 0.063" L x 0.031" W (1.60mm x 0.80mm); Height - Seated (Max): -; Thickness (Max): 0.035" (0.90mm); Lead Spacing: -; Features: -; Lead Style: -; ComponentLink1URL: http://search.murata.co.jp/Ceramy/image/img/A01X/G101/ENG/GRM188R60J106ME47-01.pdf; ComponentLink1Description: http://search.murata.co.jp/Ceramy/image/img/A01X/G101/ENG/GRM188R60J106ME47-01.pdf; Supplier 2: Digi-Key
footprint CAPC1608X08N (0603) (Chip Capacitor, 2-Leads, Body 1.60x0.80mm, IPC Medium Density)
pins: 1, 2
text: 10uF

## GRM188R61A105KA61D
designator C?  (value not drawn)
CAP CER 1UF 10V 10% X5R 0603; Manufacturer: Murata Electronics North America; Manufacturer Part Number: GRM188R61A105KA61D; Capacitance: 1.0µF; Supplier 1: Digi-Key; RoHS: RoHS Compliant; Category: Capacitors; Stock 1: 244919; Pricing 1: 1=0.1, 10=0.041, 50=0.0224, 100=0.019, 250=0.01552, 500=0.01328, 1000=0.01035 (USD); Packaging: Cut Tape (CT); Voltage - Rated: 10V; Tolerance: ±10%; Temperature Coefficient: X5R; Mounting Type: Surface Mount, MLCC; Operating Temperature: -55°C ~ 85°C; Applications: General Purpose; Ratings: -; Package / Case: 0603 (1608 Metric); Size / Dimension: 0.063" L x 0.031" W (1.60mm x 0.80mm); Height - Seated (Max): -; Thickness (Max): 0.035" (0.90mm); Lead Spacing: -; Features: -; Lead Style: -; ComponentLink1URL: http://search.murata.co.jp/Ceramy/image/img/A01X/G101/ENG/GRM188R61A105KA61-01.pdf; ComponentLink1Description: http://search.murata.co.jp/Ceramy/image/img/A01X/G101/ENG/GRM188R61A105KA61-01.pdf
footprint CAPC1608X08N (0603) (Chip Capacitor, 2-Leads, Body 1.60x0.80mm, IPC Medium Density)
pins: 1, 2
text: 1uF

## GRM188R71E224KA88D
designator C?  (value not drawn)
CAP CER 0.22UF 25V 10% X7R 0603; Manufacturer: Murata Electronics North America; Manufacturer Part Number: GRM188R71E224KA88D; Capacitance: 0.22µF; Supplier 1: Digi-Key; RoHS: RoHS Compliant; Category: Capacitors; Stock 1: 27242; Pricing 1: 1=0.14, 10=0.098, 50=0.0564, 100=0.0466, 250=0.0392, 500=0.03284, 1000=0.02695 (USD); Packaging: Cut Tape (CT); Voltage - Rated: 25V; Tolerance: ±10%; Temperature Coefficient: X7R; Mounting Type: Surface Mount, MLCC; Operating Temperature: -55°C ~ 125°C; Applications: General Purpose; Ratings: -; Package / Case: 0603 (1608 Metric); Size / Dimension: 0.063" L x 0.031" W (1.60mm x 0.80mm); Height - Seated (Max): -; Thickness (Max): 0.035" (0.90mm); Lead Spacing: -; Features: -; Lead Style: -; ComponentLink1URL: http://www.murata.com/products/catalog/pdf/c02e.pdf; ComponentLink1Description: http://www.murata.com/products/catalog/pdf/c02e.pdf; Supplier 2: Digi-Key
footprint CAPC1608X08N (0603) (Chip Capacitor, 2-Leads, Body 1.60x0.80mm, IPC Medium Density)
pins: 1, 2
text: 220nF

## GRM188R71H103MA01D
designator C?  (value not drawn)
CAP CER 10000PF 50V 20% X7R 0603; Manufacturer: Murata Electronics North America; Manufacturer Part Number: GRM188R71H103MA01D; Supplier 1: Digi-Key; RoHS: RoHS Compliant; Category: Capacitors; Stock 1: 24000; Pricing 1: 4000=0.00345, 8000=0.00315, 12000=0.003, 28000=0.00285, 100000=0.00206 (USD); Packaging: Tape & Reel (TR); Capacitance: 10000pF; Voltage - Rated: 50V; Tolerance: ±20%; Temperature Coefficient: X7R; Mounting Type: Surface Mount, MLCC; Operating Temperature: -55°C ~ 125°C; Applications: General Purpose; Ratings: -; Package / Case: 0603 (1608 Metric); Size / Dimension: 0.063" L x 0.031" W (1.60mm x 0.80mm); Height - Seated (Max): -; Thickness (Max): 0.035" (0.90mm); Lead Spacing: -; Features: -; Lead Style: -; ComponentLink1URL: http://search.murata.co.jp/Ceramy/image/img/A01X/G101/ENG/GRM188R71H103MA01-01.pdf; ComponentLink1Description: http://search.murata.co.jp/Ceramy/image/img/A01X/G101/ENG/GRM188R71H103MA01-01.pdf
footprint CAPC1608X08N (0603) (Chip Capacitor, 2-Leads, Body 1.60x0.80mm, IPC Medium Density)
pins: 1, 2
text: 10nF

## GRM1885C1H100JA01D
designator C?  (value not drawn)
CAP CER 10PF 50V 5% NP0 0603; Manufacturer: Murata Electronics North America; Manufacturer Part Number: GRM1885C1H100JA01D; Temperature Coefficient: C0G, NP0; Supplier 1: Digi-Key; RoHS: RoHS Compliant; Category: Capacitors; Stock 1: 163919; Pricing 1: 1=0.1, 10=0.041, 50=0.0222, 100=0.0187, 250=0.01532, 500=0.0131, 1000=0.0102 (USD); Packaging: Cut Tape (CT); Capacitance: 10pF; Voltage - Rated: 50V; Tolerance: ±5%; Mounting Type: Surface Mount, MLCC; Operating Temperature: -55°C ~ 125°C; Applications: General Purpose; Ratings: -; Package / Case: 0603 (1608 Metric); Size / Dimension: 0.063" L x 0.031" W (1.60mm x 0.80mm); Height - Seated (Max): -; Thickness (Max): 0.035" (0.90mm); Lead Spacing: -; Features: -; Lead Style: -; ComponentLink1URL: http://www.murata.com/products/catalog/pdf/c02e.pdf; ComponentLink1Description: http://www.murata.com/products/catalog/pdf/c02e.pdf
footprint CAPC1608X08N (0603) (Chip Capacitor, 2-Leads, Body 1.60x0.80mm, IPC Medium Density)
pins: 1, 2

## GRM1885C1H102JA01D
designator C?  (value not drawn)
CAP CER 1000PF 50V 5% NP0 0603; Manufacturer: Murata Electronics North America; Manufacturer Part Number: GRM1885C1H102JA01D; Temperature Coefficient: C0G, NP0; Supplier 1: Digi-Key; RoHS: RoHS Compliant; Category: Capacitors; Stock 1: 140000; Pricing 1: 4000=0.00863, 8000=0.00788, 12000=0.0075, 28000=0.00713, 100000=0.00516 (USD); Packaging: Tape & Reel (TR); Capacitance: 1000pF; Voltage - Rated: 50V; Tolerance: ±5%; Mounting Type: Surface Mount, MLCC; Operating Temperature: -55°C ~ 125°C; Applications: General Purpose; Ratings: -; Package / Case: 0603 (1608 Metric); Size / Dimension: 0.063" L x 0.031" W (1.60mm x 0.80mm); Height - Seated (Max): -; Thickness (Max): 0.035" (0.90mm); Lead Spacing: -; Features: -; Lead Style: -; ComponentLink1URL: http://www.murata.com/products/catalog/pdf/c02e.pdf; ComponentLink1Description: http://www.murata.com/products/catalog/pdf/c02e.pdf
footprint CAPC1608X08N (0603) (Chip Capacitor, 2-Leads, Body 1.60x0.80mm, IPC Medium Density)
pins: 1, 2
text: 1nF

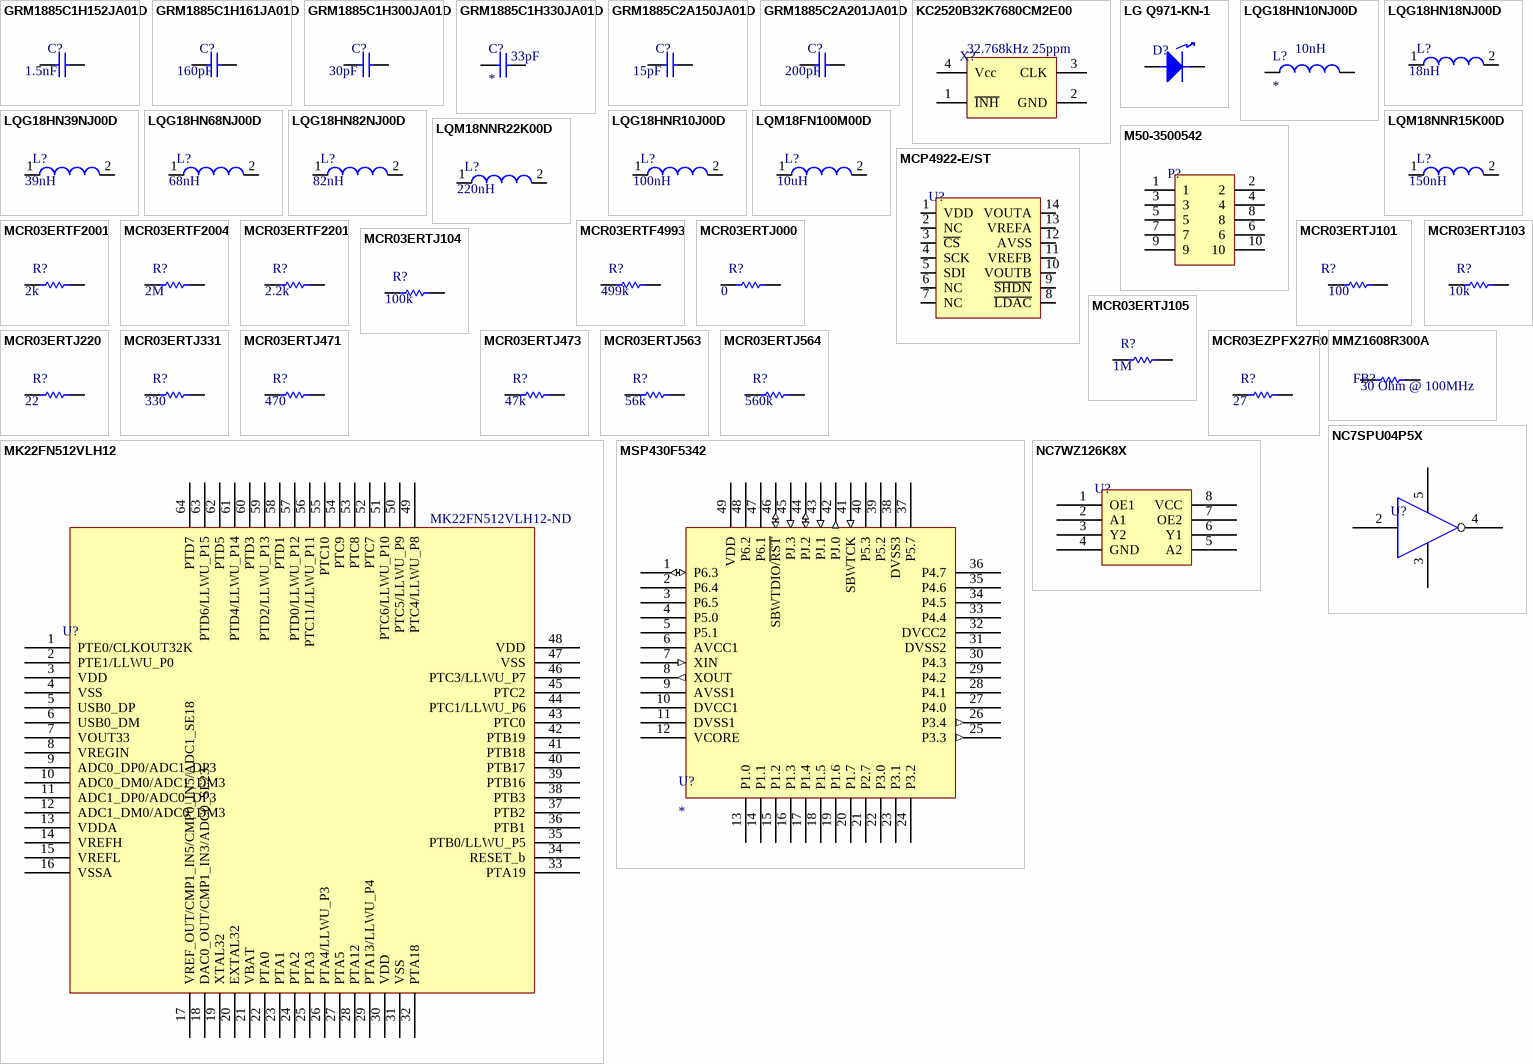
[diagram p1: symbols GRM1885C1H152JA01D to NC7WZ126K8X]

## GRM1885C1H152JA01D
designator C?  (value not drawn)
CAP CER 1500PF 50V 5% NP0 0603; Manufacturer: Murata Electronics North America; Manufacturer Part Number: GRM1885C1H152JA01D; Temperature Coefficient: C0G, NP0; Supplier 1: Digi-Key; RoHS: RoHS Compliant; Category: Capacitors; Stock 1: 64000; Pricing 1: 4000=0.01699, 8000=0.0158, 12000=0.01501, 28000=0.01422, 100000=0.01077 (USD); Packaging: Tape & Reel (TR); Capacitance: 1500pF; Voltage - Rated: 50V; Tolerance: ±5%; Mounting Type: Surface Mount, MLCC; Operating Temperature: -55°C ~ 125°C; Applications: General Purpose; Ratings: -; Package / Case: 0603 (1608 Metric); Size / Dimension: 0.063" L x 0.031" W (1.60mm x 0.80mm); Height - Seated (Max): -; Thickness (Max): 0.035" (0.90mm); Lead Spacing: -; Features: -; Lead Style: -; ComponentLink1URL: http://www.murata.com/products/catalog/pdf/c02e.pdf; ComponentLink1Description: http://www.murata.com/products/catalog/pdf/c02e.pdf
footprint CAPC1608X08N (0603) (Chip Capacitor, 2-Leads, Body 1.60x0.80mm, IPC Medium Density)
pins: 1, 2
text: 1.5nF

## GRM1885C1H161JA01D
designator C?  (value not drawn)
CAP CER 160PF 50V 5% NP0 0603; Manufacturer: Murata Electronics North America; Manufacturer Part Number: GRM1885C1H161JA01D; Temperature Coefficient: C0G, NP0; Supplier 1: Digi-Key; RoHS: RoHS Compliant; Category: Capacitors; Stock 1: 3826; Pricing 1: 1=0.12, 10=0.086, 50=0.0494, 100=0.0409, 250=0.0344, 500=0.02882, 1000=0.02365 (USD); Packaging: Cut Tape (CT); Capacitance: 160pF; Voltage - Rated: 50V; Tolerance: ±5%; Mounting Type: Surface Mount, MLCC; Operating Temperature: -55°C ~ 125°C; Applications: General Purpose; Ratings: -; Package / Case: 0603 (1608 Metric); Size / Dimension: 0.063" L x 0.031" W (1.60mm x 0.80mm); Height - Seated (Max): -; Thickness (Max): 0.035" (0.90mm); Lead Spacing: -; Features: -; Lead Style: -; ComponentLink1URL: http://search.murata.co.jp/Ceramy/image/img/A01X/G101/ENG/GRM1885C1H161JA01-01.pdf; ComponentLink1Description: http://search.murata.co.jp/Ceramy/image/img/A01X/G101/ENG/GRM1885C1H161JA01-01.pdf
footprint CAPC1608X08N (0603) (Chip Capacitor, 2-Leads, Body 1.60x0.80mm, IPC Medium Density)
pins: 1, 2

## GRM1885C1H300JA01D
designator C?  (value not drawn)
CAP CER 30PF 50V 5% NP0 0603; Manufacturer: Murata Electronics North America; Manufacturer Part Number: GRM1885C1H300JA01D; Temperature Coefficient: C0G, NP0; Supplier 1: Digi-Key; RoHS: RoHS Compliant; Category: Capacitors; Stock 1: 21971; Pricing 1: 1=0.1, 10=0.067, 50=0.0364, 100=0.0308, 250=0.0252, 500=0.02156, 1000=0.0168 (USD); Packaging: Cut Tape (CT); Capacitance: 30pF; Voltage - Rated: 50V; Tolerance: ±5%; Mounting Type: Surface Mount, MLCC; Operating Temperature: -55°C ~ 125°C; Applications: General Purpose; Ratings: -; Package / Case: 0603 (1608 Metric); Size / Dimension: 0.063" L x 0.031" W (1.60mm x 0.80mm); Height - Seated (Max): -; Thickness (Max): 0.035" (0.90mm); Lead Spacing: -; Features: -; Lead Style: -; ComponentLink1URL: http://search.murata.co.jp/Ceramy/image/img/A01X/G101/ENG/GRM1885C1H300JA01-01.pdf; ComponentLink1Description: http://search.murata.co.jp/Ceramy/image/img/A01X/G101/ENG/GRM1885C1H300JA01-01.pdf
footprint CAPC1608X08N (0603) (Chip Capacitor, 2-Leads, Body 1.60x0.80mm, IPC Medium Density)
pins: 1, 2

## GRM1885C1H330JA01D
designator C?  value 33pF
CAP CER 33PF 50V NP0 0603; Manufacturer: Murata Electronics North America; Manufacturer Part Number: GRM1885C1H330JA01D; Tolerance: ±5%; Temperature Coefficient: C0G, NP0; Supplier 1: Digi-Key; RoHS: RoHS Compliant; Category: Capacitors; Stock 1: 394990; Pricing 1: 1=0.1, 10=0.029, 50=0.0156, 100=0.0132, 250=0.0108, 500=0.00924, 1000=0.0072 (USD); Packaging: Cut Tape (CT); Capacitance: 33pF; Voltage - Rated: 50V; Mounting Type: Surface Mount, MLCC; Operating Temperature: -55°C ~ 125°C; Applications: General Purpose; Ratings: -; Package / Case: 0603 (1608 Metric); Size / Dimension: 0.063" L x 0.031" W (1.60mm x 0.80mm); Height - Seated (Max): -; Thickness (Max): 0.035" (0.90mm); Lead Spacing: -; Features: -; Lead Style: -; ComponentLink1URL: http://www.murata.com/~/media/webrenewal/support/library/catalog/products/capacitor/mlcc/c02e.pdf; ComponentLink1Description: http://www.murata.com/~/media/webrenewal/support/library/catalog/products/capacitor/mlcc/c02e.pdf; Supplier Part Number 1: 490-1415-1-ND
footprint CAPC1608X08N (0603) (Chip Capacitor, 2-Leads, Body 1.60x0.80mm, IPC Medium Density)
pins: 1, 2

## GRM1885C2A150JA01D
designator C?  (value not drawn)
CAP CER 15PF 100V 5% NP0 0603; Manufacturer: Murata Electronics North America; Manufacturer Part Number: GRM1885C2A150JA01D; Temperature Coefficient: C0G, NP0; Supplier 1: Digi-Key; RoHS: RoHS Compliant; Category: Capacitors; Stock 1: 29042; Pricing 1: 1=0.1, 10=0.052, 50=0.028, 100=0.0237, 250=0.01936, 500=0.01656, 1000=0.0129 (USD); Packaging: Cut Tape (CT); Capacitance: 15pF; Voltage - Rated: 100V; Tolerance: ±5%; Mounting Type: Surface Mount, MLCC; Operating Temperature: -55°C ~ 125°C; Applications: General Purpose; Ratings: -; Package / Case: 0603 (1608 Metric); Size / Dimension: 0.063" L x 0.031" W (1.60mm x 0.80mm); Height - Seated (Max): -; Thickness (Max): 0.035" (0.90mm); Lead Spacing: -; Features: -; Lead Style: -; ComponentLink1URL: http://www.murata.com/products/catalog/pdf/c02e.pdf; ComponentLink1Description: http://www.murata.com/products/catalog/pdf/c02e.pdf
footprint CAPC1608X08N (0603) (Chip Capacitor, 2-Leads, Body 1.60x0.80mm, IPC Medium Density)
pins: 1, 2

## GRM1885C2A201JA01D
designator C?  (value not drawn)
CAP CER 200PF 100V 5% NP0 0603; Manufacturer: Murata Electronics North America; Manufacturer Part Number: GRM1885C2A201JA01D; Temperature Coefficient: C0G, NP0; Supplier 1: Digi-Key; RoHS: RoHS Compliant; Category: Capacitors; Stock 1: 20000; Pricing 1: 4000=0.02129, 8000=0.0198, 12000=0.01881, 28000=0.01782, 100000=0.01349 (USD); Packaging: Tape & Reel (TR); Capacitance: 200pF; Voltage - Rated: 100V; Tolerance: ±5%; Mounting Type: Surface Mount, MLCC; Operating Temperature: -55°C ~ 125°C; Applications: General Purpose; Ratings: -; Package / Case: 0603 (1608 Metric); Size / Dimension: 0.063" L x 0.031" W (1.60mm x 0.80mm); Height - Seated (Max): -; Thickness (Max): 0.035" (0.90mm); Lead Spacing: -; Features: -; Lead Style: -; ComponentLink1URL: http://search.murata.co.jp/Ceramy/image/img/A01X/G101/ENG/GRM1885C2A201JA01-01.pdf; ComponentLink1Description: http://search.murata.co.jp/Ceramy/image/img/A01X/G101/ENG/GRM1885C2A201JA01-01.pdf
footprint CAPC1608X08N (0603) (Chip Capacitor, 2-Leads, Body 1.60x0.80mm, IPC Medium Density)
pins: 1, 2

## KC2520B32K7680CM2E00
designator X?  (value not drawn)
OSC XO 32.768KHZ CMOS SMD; Manufacturer: AVX Corp/Kyocera Corp; Manufacturer Part Number: KC2520B32K7680CM2E00; Function: Standby (Power Down); Voltage - Supply: 1.6 V ~ 5.5 V; Frequency Stability: ±25ppm; Current - Supply (Max): 140µA; Current - Supply (Disable) (Max): 10µA; Supplier 1: Digi-Key; RoHS: RoHS Compliant; Category: Crystals and Oscillators; Stock 1: 2000; Pricing 1: 2000=1.18, 4000=1.12, 6000=1.08, 10000=1.04 (USD); Packaging: Tape & Reel (TR); Type: XO (Standard); Frequency: 32.768kHz; Output: CMOS; Operating Temperature: -40°C ~ 85°C; Ratings: -; Mounting Type: Surface Mount; Size / Dimension: 0.098" L x 0.079" W (2.50mm x 2.00mm); Height: 0.028" (0.70mm); Package / Case: 4-SMD, No Lead (DFN, LCC); ComponentLink1URL: http://www.kyocera-crystal.jp/eng/wp-content/uploads/2014/09/kc2520b_e.pdf; ComponentLink1Description: http://www.kyocera-crystal.jp/eng/wp-content/uploads/2014/09/kc2520b_e.pdf
footprint 2.5x2.0x0.7mmXTAL
pins: 1 ~{INH}, 2 GND, 3 CLK, 4 Vcc
text: 32.768kHz 25ppm

## LG Q971-KN-1
designator D?  (value not drawn)
LED CHIPLED 570NM GREEN 0603 SMD; Manufacturer: OSRAM Opto Semiconductors Inc; Manufacturer Part Number: LG Q971-KN-1; Wavelength - Peak: 572nm; Millicandela Rating: 10mcd; Voltage - Forward (Vf) Typ: 2.2V; Current - Test: 20mA; Viewing Angle: 160°; Lens Type: Diffused; Lens Style/Size: Rectangle with Flat Top, 1mm x 0.8mm; Supplier 1: Digi-Key; RoHS: RoHS Compliant; Category: Optoelectronics; Stock 1: 44000; Pricing 1: 4000=0.03632 (USD); Packaging: Tape & Reel (TR); Color: Green; Wavelength - Dominant: 570nm; Package / Case: 0603 (1608 Metric); Size / Dimension: 1.60mm L x 0.80mm W; Height: 0.80mm; Mounting Type: Surface Mount; Luminous Flux @ Current - Test: -; ComponentLink1URL: http://catalog.osram-os.com/catalogue/catalogue.do;jsessionid=DE4D071D0D2758CC117C711BF848053E?act=downloadFile&favOid=0200000600005069000100b6; ComponentLink1Description: http://catalog.osram-os.com/catalogue/catalogue.do;jsessionid=DE4D071D0D2758CC117C711BF848053E?act=downloadFile&favOid=0200000600005069000100b6
footprint CHIPLED0603
pins: 1, 2

## LQG18HN10NJ00D
designator L?  value 10nH
FIXED IND 10NH 400MA 300 MOHM; Manufacturer: Murata Electronics North America; Manufacturer Part Number: LQG18HN10NJ00D; Type: Multilayer; Material - Core: Air; Tolerance: ±5%; Shielding: Unshielded; DC Resistance (DCR): 300 mOhm Max; Q @ Freq: 12 @ 100MHz; Frequency - Self Resonant: 3.5GHz; Frequency - Test: 100MHz; Supplier 1: Digi-Key; RoHS: RoHS Compliant; Category: Inductors, Coils, Chokes; Stock 1: 14010; Pricing 1: 1=0.21, 10=0.187, 25=0.168, 50=0.1454, 100=0.1306, 250=0.12124, 500=0.1119, 750=0.10631, 1000=0.09698 (USD); Packaging: Cut Tape (CT); Inductance: 10nH; Current Rating: 400mA; Current - Saturation: -; Ratings: -; Operating Temperature: -40°C ~ 85°C; Mounting Type: Surface Mount; Package / Case: 0603 (1608 Metric); Size / Dimension: 0.063" L x 0.031" W (1.60mm x 0.80mm); Height - Seated (Max): 0.037" (0.95mm); ComponentLink1URL: http://search.murata.co.jp/Ceramy/image/img/PDF/ENG/L0075S0083LQG18H.pdf; ComponentLink1Description: http://search.murata.co.jp/Ceramy/image/img/PDF/ENG/L0075S0083LQG18H.pdf; Supplier Part Number 1: 490-6574-1-ND
footprint INDC1608X08N (Chip Inductor, 2-Leads, Body 1.60x0.80mm, IPC Medium Density)
pins: 1, 2